# Altium integrated library LEDs.IntLib: 1 symbol
Pins are listed as number, name and electrical type; pins without a type are passive.

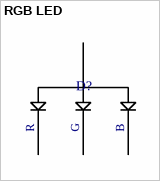
[diagram p0: symbol RGB LED]

## RGB LED
designator D?  (value not drawn)
Manufacturer Part No.: LTST-C19HE1WT; Vf: 2.1V (R), 3.35V(G), 3.35V(B); Digi-Key Part No.: 160-2162-1-ND
footprint RGB_LED_Recommended (LTST-C19HE1WT)
footprint RGB_LED_Reduced_pads (LTST-C19HE1WT)
pins: 1 R, 2 G, 3 B, 4 AN